# EAGLE library part M25P80_MLP8 (library jobygnss)
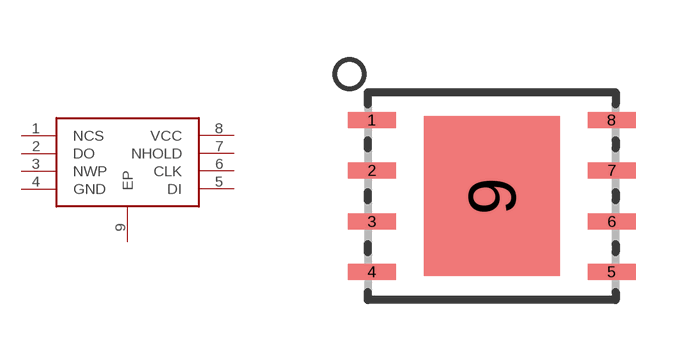
[diagram p14: symbol with the pads of M25P80_MLP8; footprint M25P80_MLP8]

Designator prefix -

## M25P80_MLP8  [M25P80_MLP8]
1  NCS  in
2  DO
3  NWP  in
4  GND  sup
5  DI
6  CLK  in
7  NHOLD  in
8  VCC  sup
9  EP  sup

## Footprint M25P80_MLP8 (pad centres in mm)
smd 1.2 x 0.4: 1 -3,1.9; 2 -3,0.64; 3 -3,-0.64; 4 -3,-1.9; 5 3,-1.9; 6 3,-0.64; 7 3,0.64; 8 3,1.9
smd 3.4 x 4: 9 0,0